# Altium integrated library 1792863.IntLib: 1 symbol
Pins are listed as number, name and electrical type; pins without a type are passive.

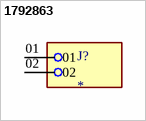
[diagram p0: symbol 1792863]

## 1792863
designator J?
MF: {'manufacturer': u'Phoenix Contact'}; MP: 1792863; Package: None; Price: None; Value: *; Availability: Unavailable
footprint PHOENIX_1792863
pins: 01, 02